# Altium footprint library JUMPER2.PcbLib: 1 footprints
Each footprint in its own frame and in the unit in brackets; x right, y up, seen from the top. Pads: shape width x height; smd on the part's side, far side on the other; paste and mask are expansions set on the pad; w line width, h text height; cw(c..) or ccw(c..) is an arc to the next point about the centre after c.
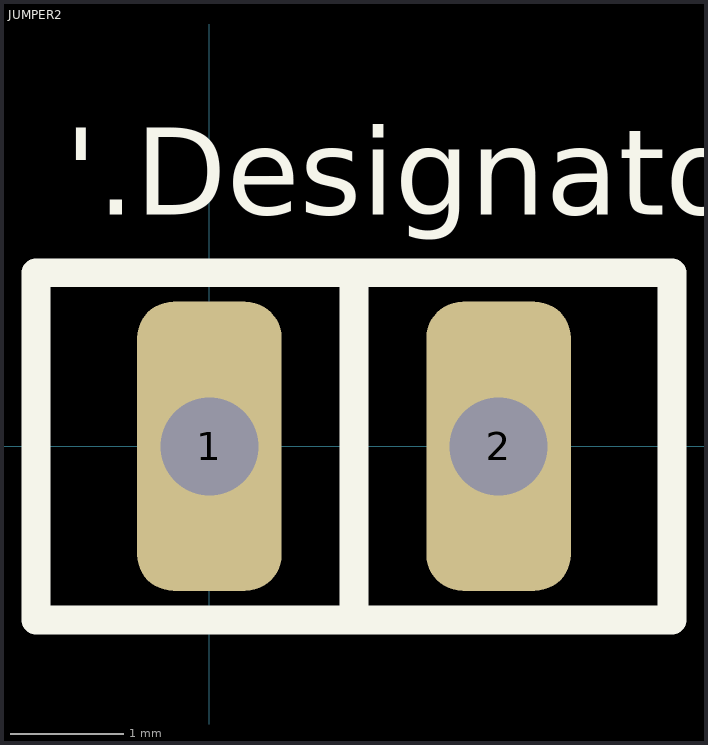
[diagram p0: the footprint, top view; thin cyan lines are the x and y axes]

## JUMPER2 [mm]
pads (2):
  rrect50% 1.27x2.54 hole 0.86: 1(0,0) 2(2.54,0)
Top Overlay:
  lines w0.254: 1.27,-1.524 1.27,1.524 ; -1.524,-1.524 4.064,-1.524 4.064,1.524 -1.524,1.524 -1.524,-1.524
  text "'.Designator'" at -1.27,2.032 h0.76
3D body "Jumper Closed.stp": height 8.72, standoff -3.05, extent -1.27,-1.272 3.81,1.268